# Altium footprint library Capacitor_Tantalum_SMD.PcbLib: 28 footprints (part 1 of 2)
Each footprint in its own frame and in the unit in brackets; x right, y up, seen from the top. Pads: shape width x height; smd on the part's side, far side on the other; paste and mask are expansions set on the pad; w line width, h text height; cw(c..) or ccw(c..) is an arc to the next point about the centre after c.
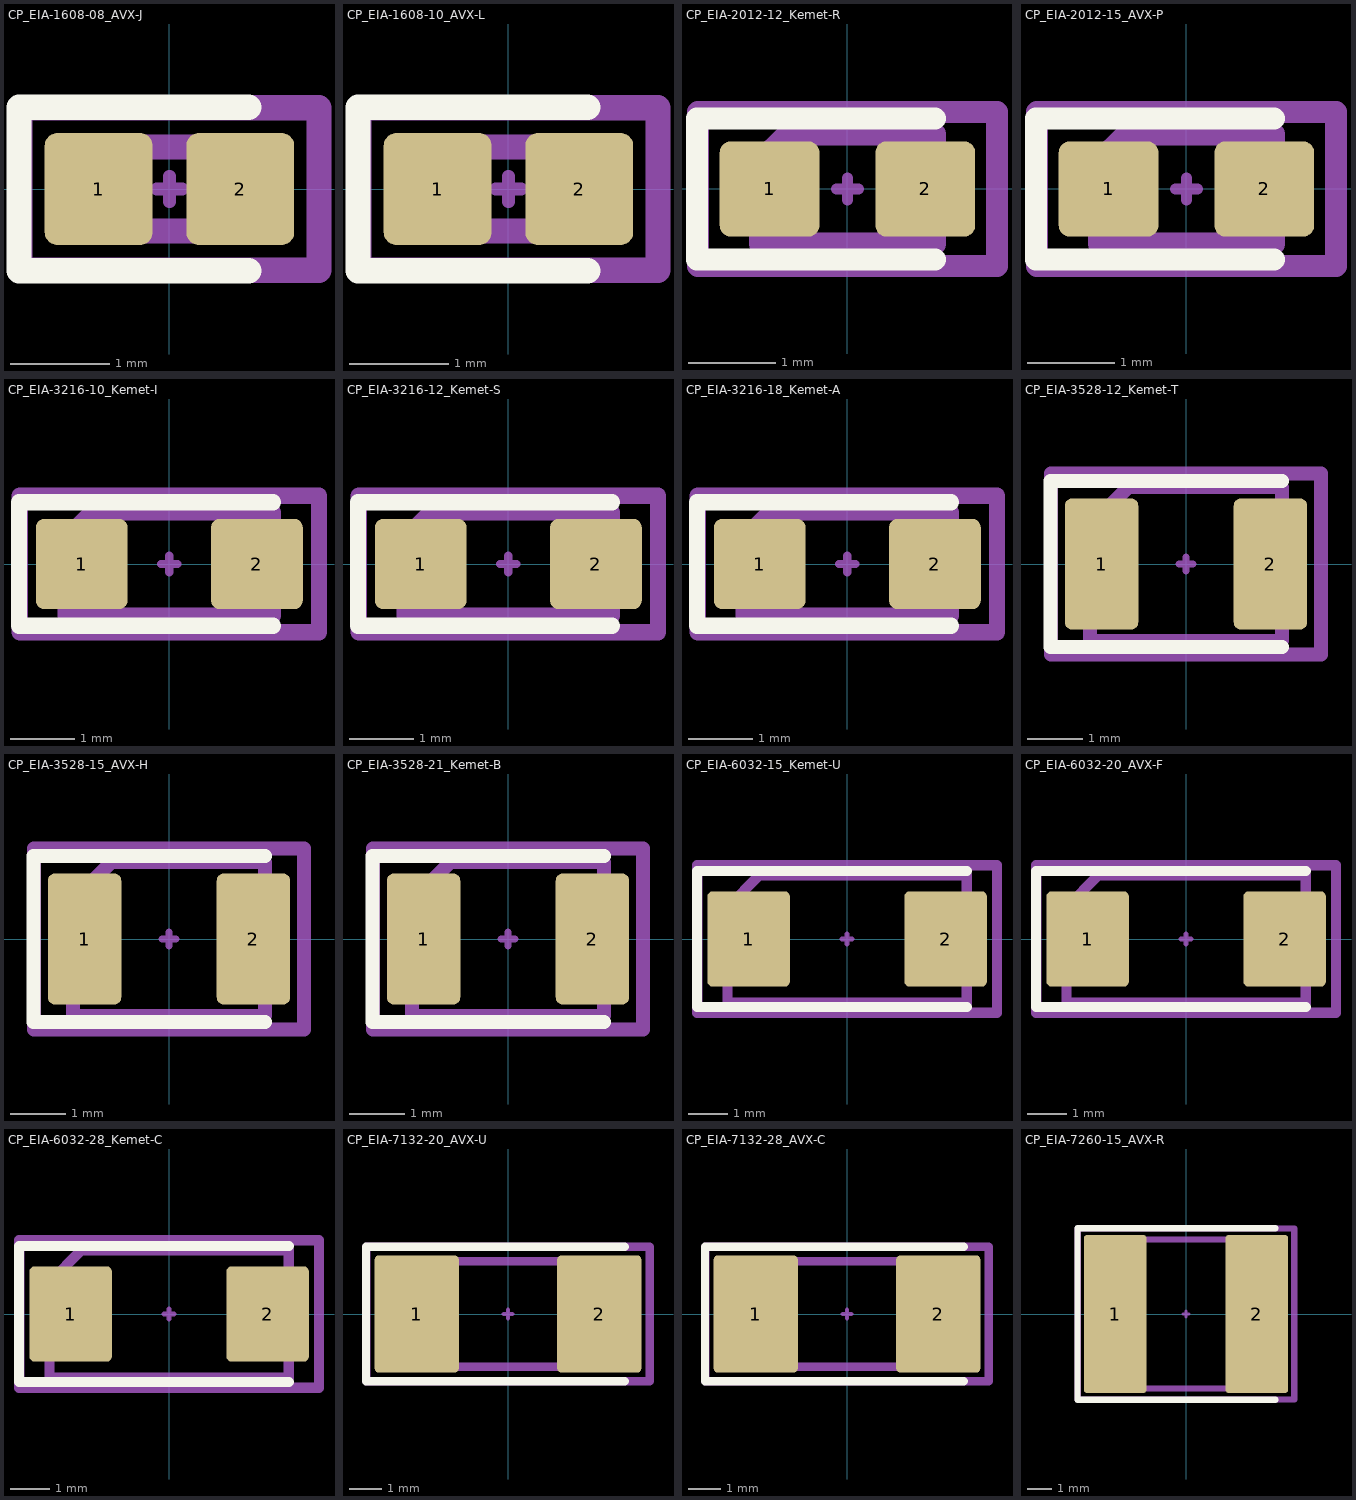
[diagram p0: the footprints below, top view; thin cyan lines are the x and y axes]

## CP_EIA-1608-08_AVX-J [mm] "CP_EIA-1608-08_AVX-J"
pads (2):
  rrect23% 1.09x1.13 smd: 1(-0.715,0) 2(0.715,0)
F.SilkS:
  lines w0.254: 0.8,-0.825 -1.52,-0.825 -1.52,0.825 0.8,0.825
Top Component Center:
  lines w0.127: -0.127,0 0.127,0 ; 0,-0.127 0,0.127
Top Assembly:
  lines w0.254: -0.8,-0.425 -0.8,0.125 -0.5,0.425 0.8,0.425 0.8,-0.425 -0.8,-0.425
Top Courtyard:
  lines w0.254: -1.51,-0.82 -1.51,0.82 1.51,0.82 1.51,-0.82 -1.51,-0.82
Top Designator:
  text ".Designator" at -1.69,-0.17 h0.75
3D body "CP_EIA-1608-08_AVX-J.step": height 0.75, standoff 0, extent -0.8,-0.425 0.8,0.425

## CP_EIA-1608-10_AVX-L [mm] "CP_EIA-1608-10_AVX-L"
pads (2):
  rrect23% 1.09x1.13 smd: 1(-0.715,0) 2(0.715,0)
F.SilkS:
  lines w0.254: 0.8,-0.825 -1.52,-0.825 -1.52,0.825 0.8,0.825
Top Component Center:
  lines w0.127: -0.127,0 0.127,0 ; 0,-0.127 0,0.127
Top Assembly:
  lines w0.254: -0.8,-0.425 -0.8,0.125 -0.5,0.425 0.8,0.425 0.8,-0.425 -0.8,-0.425
Top Courtyard:
  lines w0.254: -1.51,-0.82 -1.51,0.82 1.51,0.82 1.51,-0.82 -1.51,-0.82
Top Designator:
  text ".Designator" at -2.253,-0.227 h1
3D body "CP_EIA-1608-10_AVX-L.step": height 0.85, standoff 0, extent -0.8,-0.425 0.8,0.425
3D body "CP_EIA-1608-10_AVX-L.step": height 0.85, standoff 0, extent -0.8,-0.425 0.8,0.425

## CP_EIA-2012-12_Kemet-R [mm] "CP_EIA-2012-12_Kemet-R"
pads (2):
  rrect23% 1.14x1.09 smd: 1(-0.89,0) 2(0.89,0)
F.SilkS:
  lines w0.254: 1,-0.805 -1.72,-0.805 -1.72,0.805 1,0.805
Top Component Center:
  lines w0.127: -0.127,0 0.127,0 ; 0,-0.127 0,0.127
Top Assembly:
  lines w0.254: -1,-0.625 -1,0.312 -0.687,0.625 1,0.625 1,-0.625 -1,-0.625
Top Courtyard:
  lines w0.254: -1.71,-0.88 -1.71,0.88 1.71,0.88 1.71,-0.88 -1.71,-0.88
Top Designator:
  text ".Designator" at -2.253,-0.227 h1
3D body "CP_EIA-2012-12_Kemet-R.step": height 1.2, standoff 0, extent -1,-0.6 1,0.6

## CP_EIA-2012-15_AVX-P [mm] "CP_EIA-2012-15_AVX-P"
pads (2):
  rrect23% 1.14x1.09 smd: 1(-0.89,0) 2(0.89,0)
F.SilkS:
  lines w0.254: 1,-0.805 -1.72,-0.805 -1.72,0.805 1,0.805
Top Component Center:
  lines w0.127: -0.127,0 0.127,0 ; 0,-0.127 0,0.127
Top Assembly:
  lines w0.254: -1,-0.625 -1,0.312 -0.687,0.625 1,0.625 1,-0.625 -1,-0.625
Top Courtyard:
  lines w0.254: -1.71,-0.88 -1.71,0.88 1.71,0.88 1.71,-0.88 -1.71,-0.88
Top Designator:
  text ".Designator" at -2.253,-0.227 h1
3D body "CP_EIA-2012-15_AVX-P.step": height 1.5, standoff 0, extent -1.025,-0.675 1.025,0.675

## CP_EIA-3216-10_Kemet-I [mm] "CP_EIA-3216-10_Kemet-I"
pads (2):
  rrect18% 1.415x1.39 smd: 1(-1.352,0) 2(1.352,0)
F.SilkS:
  lines w0.254: 1.6,-0.955 -2.32,-0.955 -2.32,0.955 1.6,0.955
Top Component Center:
  lines w0.127: -0.127,0 0.127,0 ; 0,-0.127 0,0.127
Top Assembly:
  lines w0.254: -1.6,-0.8 1.6,-0.8 1.6,0.8 -1.2,0.8 -1.6,0.4 -1.6,-0.8
Top Courtyard:
  lines w0.254: -2.31,-1.05 2.31,-1.05 2.31,1.05 -2.31,1.05 -2.31,-1.05
Top Designator:
  text ".Designator" at -2.253,-0.227 h1
3D body "CP_EIA-3216-10_Kemet-I.step": height 1.2, standoff 0, extent -1.7,-0.9 1.7,0.9

## CP_EIA-3216-12_Kemet-S [mm] "CP_EIA-3216-12_Kemet-S"
pads (2):
  rrect18% 1.415x1.39 smd: 1(-1.352,0) 2(1.352,0)
F.SilkS:
  lines w0.254: 1.6,-0.955 -2.32,-0.955 -2.32,0.955 1.6,0.955
Top Component Center:
  lines w0.127: -0.127,0 0.127,0 ; 0,-0.127 0,0.127
Top Assembly:
  lines w0.254: -1.6,-0.8 -1.6,0.4 -1.2,0.8 1.6,0.8 1.6,-0.8 -1.6,-0.8
Top Courtyard:
  lines w0.254: -2.31,-1.05 -2.31,1.05 2.31,1.05 2.31,-1.05 -2.31,-1.05
Top Designator:
  text ".Designator" at -2.253,-0.227 h1
3D body "CP_EIA-3216-12_Kemet-S.step": height 1.2, standoff 0, extent -1.7,-0.9 1.7,0.9
3D body "CP_EIA-3216-12_Kemet-S.step": height 1.2, standoff 0, extent -1.7,-0.9 1.7,0.9

## CP_EIA-3216-18_Kemet-A [mm] "CP_EIA-3216-18_Kemet-A"
pads (2):
  rrect18% 1.415x1.39 smd: 1(-1.352,0) 2(1.352,0)
F.SilkS:
  lines w0.254: 1.6,-0.955 -2.32,-0.955 -2.32,0.955 1.6,0.955
Top Component Center:
  lines w0.127: -0.127,0 0.127,0 ; 0,-0.127 0,0.127
Top Assembly:
  lines w0.254: -1.6,-0.8 -1.6,0.4 -1.2,0.8 1.6,0.8 1.6,-0.8 -1.6,-0.8
Top Courtyard:
  lines w0.254: -2.31,-1.05 -2.31,1.05 2.31,1.05 2.31,-1.05 -2.31,-1.05
Top Designator:
  text ".Designator" at -2.253,-0.227 h1
3D body "CP_EIA-3216-18_Kemet-A.step": height 1.8, standoff 0, extent -1.6,-0.8 1.6,0.8

## CP_EIA-3528-12_Kemet-T [mm] "CP_EIA-3528-12_Kemet-T"
pads (2):
  rrect19% 1.34x2.39 smd: 1(-1.54,0) 2(1.54,0)
F.SilkS:
  lines w0.254: 1.75,-1.51 -2.47,-1.51 -2.47,1.51 1.75,1.51
Top Component Center:
  lines w0.127: -0.127,0 0.127,0 ; 0,-0.127 0,0.127
Top Assembly:
  lines w0.254: -1.75,-1.4 1.75,-1.4 1.75,1.4 -1.05,1.4 -1.75,0.7 -1.75,-1.4
Top Courtyard:
  lines w0.254: -2.46,-1.65 2.46,-1.65 2.46,1.65 -2.46,1.65 -2.46,-1.65
Top Designator:
  text ".Designator" at -2.253,-0.227 h1
3D body "CP_EIA-3528-12_Kemet-T.step": height 1.2, standoff 0, extent -1.85,-1.5 1.85,1.5

## CP_EIA-3528-15_AVX-H [mm] "CP_EIA-3528-15_AVX-H"
pads (2):
  rrect19% 1.34x2.39 smd: 1(-1.54,0) 2(1.54,0)
F.SilkS:
  lines w0.254: 1.75,-1.51 -2.47,-1.51 -2.47,1.51 1.75,1.51
Top Component Center:
  lines w0.127: -0.127,0 0.127,0 ; 0,-0.127 0,0.127
Top Assembly:
  lines w0.254: -1.75,-1.4 -1.75,0.7 -1.05,1.4 1.75,1.4 1.75,-1.4 -1.75,-1.4
Top Courtyard:
  lines w0.254: -2.46,-1.65 -2.46,1.65 2.46,1.65 2.46,-1.65 -2.46,-1.65
Top Designator:
  text ".Designator" at -2.253,-0.227 h1
3D body "CP_EIA-3528-15_AVX-H.step": height 1.5, standoff 0, extent -1.75,-1.4 1.75,1.4

## CP_EIA-3528-21_Kemet-B [mm] "CP_EIA-3528-21_Kemet-B"
pads (2):
  rrect19% 1.34x2.39 smd: 1(-1.54,0) 2(1.54,0)
F.SilkS:
  lines w0.254: 1.75,-1.51 -2.47,-1.51 -2.47,1.51 1.75,1.51
Top Component Center:
  lines w0.127: -0.127,0 0.127,0 ; 0,-0.127 0,0.127
Top Assembly:
  lines w0.254: -1.75,-1.4 1.75,-1.4 1.75,1.4 -1.05,1.4 -1.75,0.7 -1.75,-1.4
Top Courtyard:
  lines w0.254: -2.46,-1.65 2.46,-1.65 2.46,1.65 -2.46,1.65 -2.46,-1.65
Top Designator:
  text ".Designator" at -2.253,-0.227 h1
3D body "CP_EIA-3528-21_Kemet-B.step": height 2.1, standoff 0, extent -1.75,-1.4 1.75,1.4

## CP_EIA-6032-15_Kemet-U [mm]
pads (2):
  rrect12% 2.07x2.39 smd: 1(-2.47,0) 2(2.47,0)
F.SilkS:
  lines w0.254: 3,-1.71 -3.765,-1.71 -3.765,1.71 3,1.71
Top Component Center:
  lines w0.127: -0.127,0 0.127,0 ; 0,-0.127 0,0.127
Top Assembly:
  lines w0.254: -3,-1.6 3,-1.6 3,1.6 -2.2,1.6 -3,0.8 -3,-1.6
Top Courtyard:
  lines w0.254: -3.76,-1.85 3.76,-1.85 3.76,1.85 -3.76,1.85 -3.76,-1.85
Top Designator:
  text ".Designator" at -3.434,-0.345 h1.52

## CP_EIA-6032-20_AVX-F [mm] "CP_EIA-6032-20_AVX-F"
pads (2):
  rrect12% 2.07x2.39 smd: 1(-2.47,0) 2(2.47,0)
F.SilkS:
  lines w0.254: 3,-1.71 -3.765,-1.71 -3.765,1.71 3,1.71
Top Component Center:
  lines w0.127: -0.127,0 0.127,0 ; 0,-0.127 0,0.127
Top Assembly:
  lines w0.254: -3,-1.6 -3,0.8 -2.2,1.6 3,1.6 3,-1.6 -3,-1.6
Top Courtyard:
  lines w0.254: -3.76,-1.85 -3.76,1.85 3.76,1.85 3.76,-1.85 -3.76,-1.85
Top Designator:
  text ".Designator" at -3.434,-0.345 h1.52
3D body "CP_EIA-6032-20_AVX-F.step": height 2, standoff 0, extent -3,-1.6 3,1.6

## CP_EIA-6032-28_Kemet-C [mm] "CP_EIA-6032-28_Kemet-C"
pads (2):
  rrect12% 2.07x2.39 smd: 1(-2.47,0) 2(2.47,0)
F.SilkS:
  lines w0.254: 3,-1.71 -3.765,-1.71 -3.765,1.71 3,1.71
Top Component Center:
  lines w0.127: -0.127,0 0.127,0 ; 0,-0.127 0,0.127
Top Assembly:
  lines w0.254: -3,-1.6 3,-1.6 3,1.6 -2.2,1.6 -3,0.8 -3,-1.6
Top Courtyard:
  lines w0.254: -3.76,-1.85 3.76,-1.85 3.76,1.85 -3.76,1.85 -3.76,-1.85
Top Designator:
  text ".Designator" at -3.434,-0.345 h1.52
3D body "CP_EIA-6032-28_Kemet-C.step": height 2.8, standoff 0, extent -3,-1.6 3,1.6

## CP_EIA-7132-20_AVX-U [mm] "CP_EIA-7132-20_AVX-U"
pads (2):
  rrect10% 2.56x3.57 smd: 1(-2.775,0) 2(2.775,0)
F.SilkS:
  lines w0.254: 3.55,-2.045 -4.315,-2.045 -4.315,2.045 3.55,2.045
Top Component Center:
  lines w0.127: -0.127,0 0.127,0 ; 0,-0.127 0,0.127
Top Assembly:
  lines w0.254: -3.55,-1.6 3.55,-1.6 3.55,1.6 -2.75,1.6 -3.55,0.8 -3.55,-1.6
Top Courtyard:
  lines w0.254: -4.31,-2.04 4.31,-2.04 4.31,2.04 -4.31,2.04 -4.31,-2.04
Top Designator:
  text ".Designator" at -3.434,-0.345 h1.52
3D body "CP_EIA-6032-15_Kemet-U.step": height 1.5, standoff 0, extent -3.15,-1.75 3.15,1.75

## CP_EIA-7132-28_AVX-C [mm] "CP_EIA-7132-28_AVX-C"
pads (2):
  rrect10% 2.56x3.57 smd: 1(-2.775,0) 2(2.775,0)
F.SilkS:
  lines w0.254: 3.55,-2.045 -4.315,-2.045 -4.315,2.045 3.55,2.045
Top Component Center:
  lines w0.127: -0.127,0 0.127,0 ; 0,-0.127 0,0.127
Top Assembly:
  lines w0.254: -3.55,-1.6 -3.55,0.8 -2.75,1.6 3.55,1.6 3.55,-1.6 -3.55,-1.6
Top Courtyard:
  lines w0.254: -4.31,-2.04 -4.31,2.04 4.31,2.04 4.31,-2.04 -4.31,-2.04
Top Designator:
  text ".Designator" at -3.434,-0.345 h1.52
3D body "CP_EIA-7343-15_Kemet-W.step": height 1.5, standoff 0, extent -3.65,-2.15 3.65,2.15

## CP_EIA-7260-15_AVX-R [mm] "CP_EIA-7260-15_AVX-R"
pads (2):
  rrect10% 2.51x6.37 smd: 1(-2.85,0) 2(2.85,0)
F.SilkS:
  lines w0.254: 3.6,-3.445 -4.365,-3.445 -4.365,3.445 3.6,3.445
Top Component Center:
  lines w0.127: -0.127,0 0.127,0 ; 0,-0.127 0,0.127
Top Assembly:
  lines w0.254: -3.6,-3 -3.6,2 -2.6,3 3.6,3 3.6,-3 -3.6,-3
Top Courtyard:
  lines w0.254: -4.36,-3.44 -4.36,3.44 4.36,3.44 4.36,-3.44 -4.36,-3.44
Top Designator:
  text ".Designator" at -3.434,-0.345 h1.52